# EAGLE library part LT1370 (library ee_projects)
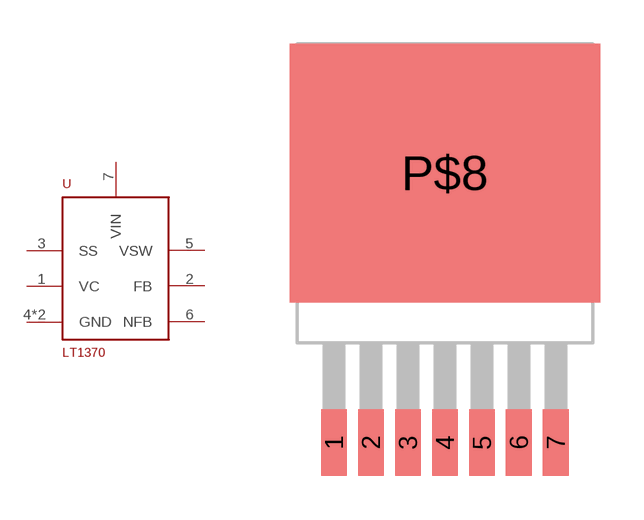
[diagram p12: symbol with the pads of LT1370; footprint LT1370]

Designator prefix -

## LT1370  [LT1370]
1  VC
2  FB
3  SS
4  GND
5  VSW
6  NFB
7  VIN
P$8  GND

## Footprint LT1370 (pad centres in mm)
smd 0.889 x 2.286: 1 -3.81,-9.271; 2 -2.54,-9.271; 3 -1.27,-9.271; 4 0,-9.271; 5 1.27,-9.271; 6 2.54,-9.271; 7 3.81,-9.271
smd 10.668 x 8.89: P$8 0,0